# Altium footprint library Ind_Murata_LQH32CN101K23L_eec_MFG.PcbLib: 1 footprints
Each footprint in its own frame and in the unit in brackets; x right, y up, seen from the top. Pads: shape width x height; smd on the part's side, far side on the other; paste and mask are expansions set on the pad; w line width, h text height; cw(c..) or ccw(c..) is an arc to the next point about the centre after c.
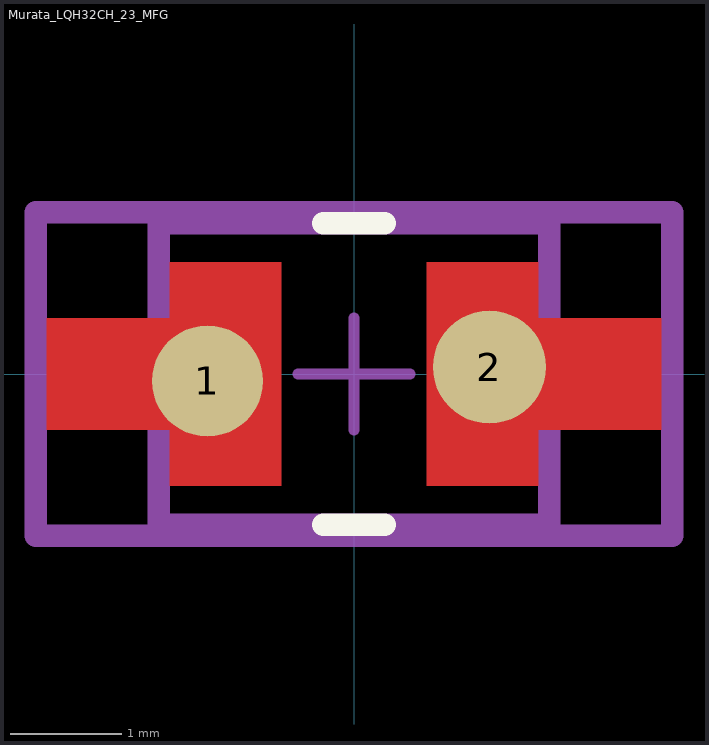
[diagram p0: the footprint, top view; thin cyan lines are the x and y axes]

## Murata_LQH32CH_23_MFG [mm]
pads (2):
  round 0.995 smd paste+0 mask+0: 1(-1.312,-0.062)
  round 1.012 smd paste+0 mask+0: 2(1.212,0.062)
Top Layer:
  region: -1.65,-1 -1.65,-0.5 -2.75,-0.5 -2.75,0.5 -1.65,0.5 -1.65,1 -0.65,1 -0.65,-1
  region: 0.65,-1 0.65,1 1.65,1 1.65,0.5 2.75,0.5 2.75,-0.5 1.65,-0.5 1.65,-1
Top Overlay:
  lines w0.2: -0.275,-1.35 0.275,-1.35 ; -0.275,1.35 0.275,1.35
Mechanical 10:
  lines w0.2: -2.85,-1.45 2.85,-1.45 2.85,1.45 -2.85,1.45 -2.85,-1.45
  text ".Designator" at 0,0 h1
Mechanical 12:
  lines w0.2: -1.75,-1.35 1.75,-1.35 1.75,1.35 -1.75,1.35 -1.75,-1.35
Mechanical 15:
  lines w0.1: -0.5,0 0.5,0 ; 0,-0.5 0,0.5
  lines w0.2: -2.85,-1.45 2.85,-1.45 2.85,1.45 -2.85,1.45 -2.85,-1.45
3D body "Ind_Murata_LQH32CN101K23L_eec.STEP": height 0.25, standoff 0, extent -2.85,-1.45 2.85,1.45